# Altium schematic symbol library Connectors.SchLib: 134 symbols (part 1 of 2)
Pins are listed as number, name and electrical type; pins without a type are passive.

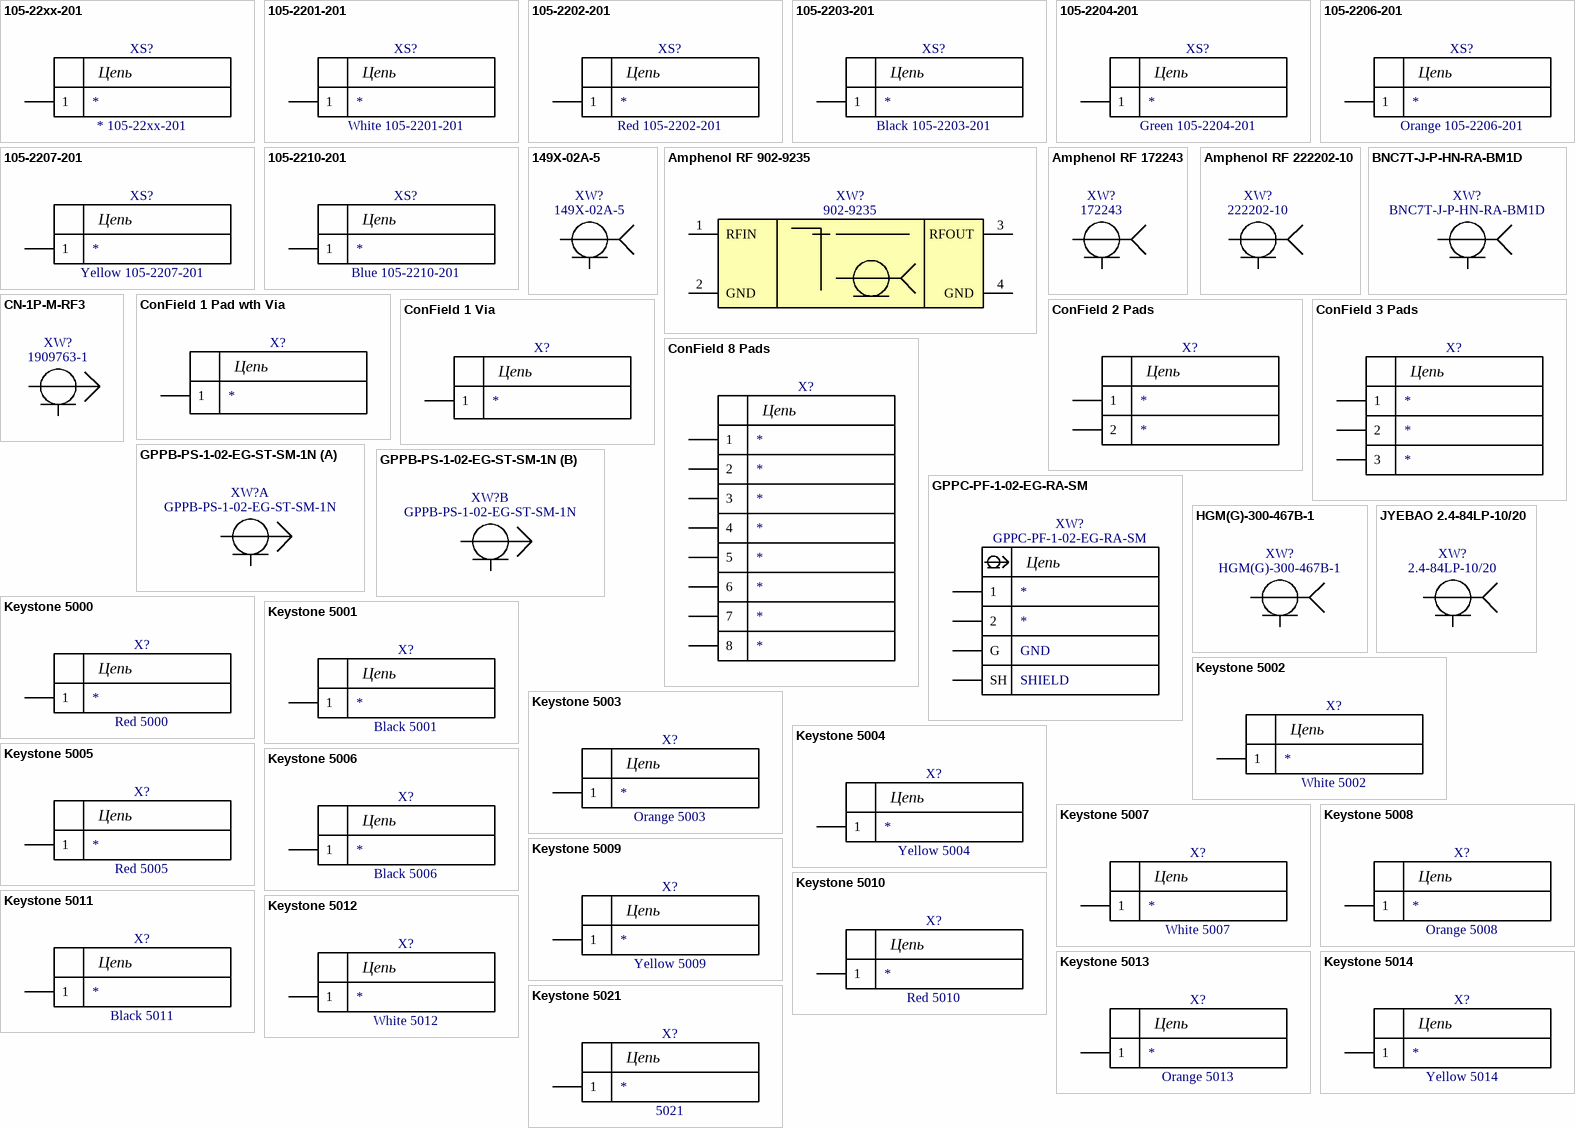
[diagram p0: symbols 105-22xx-201 to Keystone 5021]

## 105-22xx-201
designator XS?, comment * 105-22xx-201
Vertical Test Jack Insulated Formed Contact / Pin Ø 2mm; Manufacturer: Cinch; PartNumber: 105-22xx-201; BodyColor: *; ComponentLink1Description: DataSheet; ComponentLink1URL: https://cinch.com/resources/productinformations/cinchconnectivitysolutions/johnson/pi-ccs-john-105-2210-201.pdf; ComponentLink2Description: DataSheet 2; ComponentLink2URL: https://cinch.com/resources/drawings/cinchconnectivitysolutions/johnson/dr-ccs-john-105-2210-201.pdf; Net1: *
footprint 105-2201-201 (Vertical Test Jack Insulated Formed Contact, For Standard Tip Plug 2.00Dia, Color - white)
footprint 105-2202-201 (Vertical Test Jack Insulated Formed Contact, For Standard Tip Plug 2.00Dia, Color - red)
footprint 105-2203-201 (Vertical Test Jack Insulated Formed Contact, For Standard Tip Plug 2.00Dia, Color - black)
footprint 105-2204-201 (Vertical Test Jack Insulated Formed Contact, For Standard Tip Plug 2.00Dia, Color - green)
footprint 105-2206-201 (Vertical Test Jack Insulated Formed Contact, For Standard Tip Plug 2.00Dia, Color - orange)
footprint 105-2207-201 (Vertical Test Jack Insulated Formed Contact, For Standard Tip Plug 2.00Dia, Color - yellow)
footprint 105-2208-201 (Vertical Test Jack Insulated Formed Contact, For Standard Tip Plug 2.00Dia, Color - brown)
footprint 105-2210-201 (Vertical Test Jack Insulated Formed Contact, For Standard Tip Plug 2.00Dia, Color - blue)
footprint 105-2212-201 (Vertical Test Jack Insulated Formed Contact, For Standard Tip Plug 2.00Dia, Color - violet)
footprint 105-2213-201 (Vertical Test Jack Insulated Formed Contact, For Standard Tip Plug 2.00Dia, Color - gray)
pins: 1
text: Цепь

## 105-2201-201
designator XS?, comment White 105-2201-201
Vertical Test Jack Insulated Formed Contact / Pin Ø 2mm White; Manufacturer: Cinch; PartNumber: 105-2201-201; BodyColor: White; ComponentLink1Description: Product Page; ComponentLink1URL: https://www.cinch.com/products/rf-microwave/accessories/banana-and-tip-connectors/105-2201-201; Net1: *
footprint 105-2201-201 (Vertical Test Jack Insulated Formed Contact, For Standard Tip Plug 2.00Dia, Color - white)
pins: 1
text: Цепь

## 105-2202-201
designator XS?, comment Red 105-2202-201
Vertical Test Jack Insulated Formed Contact / Pin Ø 2mm Red; Manufacturer: Cinch; PartNumber: 105-2202-201; BodyColor: Red; ComponentLink1Description: Product Page; ComponentLink1URL: https://www.cinch.com/products/rf-microwave/accessories/banana-and-tip-connectors/105-2202-201; Net1: *
footprint 105-2202-201 (Vertical Test Jack Insulated Formed Contact, For Standard Tip Plug 2.00Dia, Color - red)
pins: 1
text: Цепь

## 105-2203-201
designator XS?, comment Black 105-2203-201
Vertical Test Jack Insulated Formed Contact / Pin Ø 2mm Black; Manufacturer: Cinch; PartNumber: 105-2203-201; BodyColor: Black; ComponentLink1Description: Product Page; ComponentLink1URL: https://www.cinch.com/products/rf-microwave/accessories/banana-and-tip-connectors/105-2203-201; Net1: *
footprint 105-2203-201 (Vertical Test Jack Insulated Formed Contact, For Standard Tip Plug 2.00Dia, Color - black)
pins: 1
text: Цепь

## 105-2204-201
designator XS?, comment Green 105-2204-201
Vertical Test Jack Insulated Formed Contact / Pin Ø 2mm Green; Manufacturer: Cinch; PartNumber: 105-2204-201; BodyColor: Green; ComponentLink1Description: Product Page; ComponentLink1URL: https://www.cinch.com/products/rf-microwave/accessories/banana-and-tip-connectors/105-2204-201; Net1: *
footprint 105-2204-201 (Vertical Test Jack Insulated Formed Contact, For Standard Tip Plug 2.00Dia, Color - green)
pins: 1
text: Цепь

## 105-2206-201
designator XS?, comment Orange 105-2206-201
Vertical Test Jack Insulated Formed Contact / Pin Ø 2mm Orange; Manufacturer: Cinch; PartNumber: 105-2206-201; BodyColor: Orange; ComponentLink1Description: DataSheet; ComponentLink1URL: https://www.cinch.com/products/rf-microwave/accessories/banana-and-tip-connectors/105-2206-201; Net1: *
footprint 105-2206-201 (Vertical Test Jack Insulated Formed Contact, For Standard Tip Plug 2.00Dia, Color - orange)
pins: 1
text: Цепь

## 105-2207-201
designator XS?, comment Yellow 105-2207-201
Vertical Test Jack Insulated Formed Contact / Pin Ø 2mm Yellow; Manufacturer: Cinch; PartNumber: 105-2207-201; BodyColor: Yellow; ComponentLink1Description: DataSheet; ComponentLink1URL: https://www.cinch.com/products/rf-microwave/accessories/banana-and-tip-connectors/105-2207-201; Net1: *
footprint 105-2207-201 (Vertical Test Jack Insulated Formed Contact, For Standard Tip Plug 2.00Dia, Color - yellow)
pins: 1
text: Цепь

## 105-2210-201
designator XS?, comment Blue 105-2210-201
Vertical Test Jack Insulated Formed Contact / Pin Ø 2mm Blue; Manufacturer: Cinch; PartNumber: 105-2210-201; BodyColor: Blue; ComponentLink1Description: DataSheet; ComponentLink1URL: https://www.cinch.com/products/rf-microwave/accessories/banana-and-tip-connectors/105-2210-201; Net1: *
footprint 105-2210-201 (Vertical Test Jack Insulated Formed Contact, For Standard Tip Plug 2.00Dia, Color - blue)
pins: 1
text: Цепь

## 149X-02A-5
designator XW?
End Launch 2.40mm 50 GHz Jack (Female) Standard Block (.500); Manufacturer: Southwest Microwave; PartNumber: 149X-02A-5; ComponentLink1Description: Product Page; ComponentLink1URL: https://mpd.southwestmicrowave.com/product-category/end-launch-connectors/
footprint 149X-02A-5 (South-West End Launch Connector - Standard Profile 2.4mm)
pins: 1, 2

## Amphenol RF 902-9235
designator XW?, comment 902-9235
RF Switch Straight PCB Jack Surface Mount 50 Ohm; Manufacturer: Amphenol RF; PartNumber: 902-9235; ComponentLink1Description: Product Page; ComponentLink1URL: https://www.amphenolrf.com/902-9235.html; ComponentLink2Description: DataSheet; ComponentLink2URL: https://www.amphenolrf.com/library/download/link/link_id/598204/parent/902-9235/
footprint Amphenol RF 902-9235 (RF Switch Straight PCB Jack Surface Mount 50 Ohm)
pins: 1 RFIN, 2 GND, 3 RFOUT, 4 GND

## Amphenol RF 172243
designator XW?, comment 172243
N-Type PCB Through Hole Straight Jack Bulkhead 50 Ohm; Manufacturer: Amphenol RF; PartNumber: 172243; ComponentLink1Description: Product Page; ComponentLink1URL: https://www.amphenolrf.com/172243.html; ComponentLink2Description: DataSheet; ComponentLink2URL: https://www.amphenolrf.com/library/download/link/link_id/591480/parent/172243/
footprint Amphenol RF 172243 (N-Type PCB Through Hole Straight Jack Bulkhead 50 Ohm)
pins: 1, 2

## Amphenol RF 222202-10
designator XW?, comment 222202-10
F-Type Straight PCB Jack End Launch Bulkhead Rear Mount 75 Ohm; Manufacturer: Amphenol RF; PartNumber: 222202-10; ComponentLink1Description: Product Page; ComponentLink1URL: https://www.amphenolrf.com/222202-10.html; ComponentLink2Description: DataSheet; ComponentLink2URL: https://www.amphenolrf.com/library/download/link/link_id/595137/parent/222202-10/
footprint Amphenol RF 222202-10 (F-Type Straight PCB Jack End Launch Bulkhead Rear Mount 75 Ohm)
pins: 1, 2

## BNC7T-J-P-HN-RA-BM1D
designator XW?
75 Ohm BNC Low Profile, Mixed Technology Die Cast Bulkhead Jack; Manufacturer: Samtec; PartNumber: BNC7T-J-P-HN-RA-BM1D; ComponentLink1Description: Product Page; ComponentLink1URL: https://www.samtec.com/products/bnc7t-j-p-hn-ra-bm1d#prints; ComponentLink2Description: DataSheet; ComponentLink2URL: https://suddendocs.samtec.com/prints/bnc7t-j-p-xx-ra-bmxd-mkt.pdf
footprint BNC7T-J-P-HN-RA-BM1D (Samtek 75 Ohm BNC Low Profile, Mixed Technology Die Cast Bulkhead Jack)
pins: 1, 2

## CN-1P-M-RF3
designator XW?, comment 1909763-1
Ultra Miniature Coaxial Connector Jack, 60 V, 50 Ohm, -40 to 90 degC, RoHS, Tape and Reel; Manufacturer: TE Connectivity; Gender: Female; PCB Mounting Orientation: Vertical; Body Material: LiquidCrystalPolymer; Case\/Package: SMD/SMT; Impedance: 50Ohm; Max Frequency: 6GHz; Body Plating: Gold; Dielectric Material: Polymer; Orientation: Straight; Mount: SurfaceMount; Length: 3mm; Packaging: TapeandReel; Connector Type: Jack; Lead Free: LeadFree; Package Quantity: 1; Termination: SMD/SMT; Contact Material: CopperAlloy; Fastening Type: Pull; RoHSCompliant: true; Max Operating Temperature: 90degC; Datasheet URL: http://www.te.com/commerce/DocumentDelivery/DDEController?Action=srchrtrv&DocNm=1909763&DocType=Customer+Drawing&DocLang=English; Contact Plating: Gold; Mounting Technology: SurfaceMount; Package Reference: TECO-1909763-1; Insulation Material: Thermoplastic; Min Operating Temperature: -40degC; Manufacturer URL: http://www.te.com/; ELV: Compliant; Datasheet Version: Rev. B2, 11/2015; Radiation Hardening: No; Package Description: 3-Pin Surface Mount Device, Body 2.6 x 2.6 mm; Housing Colour: Beige; Supplier 1: Digi-Key; Supplier Part Number 1: A118077CT-ND; PartNumber: 1909763-1; ComponentLink1Description: Product Page; ComponentLink1URL: https://www.te.com/usa-en/product-1909763-1.html; ComponentLink2Description: DataSheet; ComponentLink2URL: https://www.te.com/usa-en/product-1909763-1.datasheet.pdf
footprint TECO-1909763-1_V (SMD, 3-Leads, Body 2.6x2.6mm, Height 1.25mm)
pins: 1, 2

## ConField 1 Pad wth Via
designator X?  (no BOM)
Contact Field Pad with Via; Net1: *
footprint ConField L1200W500 WTH Via (Contact Field Pad with Via 12mm x 5 mm x via 3 mm)
pins: 1
text: Цепь

## ConField 1 Via
designator X?  (no BOM)
Contact Via Pad Diameter 1.6 mm Via 1 mm with Netname; Net1: *
footprint ConViaPad D1600H100 - NetName (Contact Via Pad Diameter 1.6 mm Via 1 mm with Netname)
pins: 1
text: Цепь

## ConField 2 Pads
designator X?  (no BOM)
Contact Field 2 Pads; Net2: *; Net1: *
footprint ConField 2 Pads L1000W300G200 (Contact Field 2 Pads 10mm x 3 mm gap 2 mm)
pins: 1, 2
text: Цепь

## ConField 3 Pads
designator X?  (no BOM)
Contact Field 3 Pads; Net3: *; Net2: *; Net1: *
footprint ConField 3 Pads L1000W300G200 (Contact Field 3 Pads 10mm x 3 mm gap 2 mm)
pins: 1, 2, 3
text: Цепь

## ConField 8 Pads
designator X?  (no BOM)
Contact Field 8 Pads; Net8: *; Net7: *; Net6: *; Net5: *; Net4: *; Net3: *; Net2: *; Net1: *
footprint ConField 8 Pads L1000W300G200 (Contact Field 8 Pads 10mm x 3 mm gap 2 mm)
pins: 1, 2, 3, 4, 5, 6, 7, 8
text: Цепь

## GPPB-PS-1-02-EG-ST-SM-1N
designator XW?
MPM Connector Plug, Male Pin Surface Mount, Through Hole Solder; Manufacturer: Samtec; PartNumber: GPPB-PS-1-02-EG-ST-SM-1N; ComponentLink1Description: Product Page; ComponentLink1URL: https://www.samtec.com/products/gppb
footprint SAMTEC GPPB-PS-1-02-EG-ST-SM-1N (SMPM Connector Plug, Male Pin Surface Mount, Through Hole Solder)
part A pins: 1, G1
part B pins: 2, G2

## GPPC-PF-1-02-EG-RA-SM
designator XW?  NetSH: SHIELD  NetG: GND
Magnum RF® Ganged, Multi-Port SMPM Block, 2 pos, SMT; Manufacturer: Samtec; PartNumber: GPPC-PF-1-02-EG-RA-SM; ComponentLink1Description: Product Page; ComponentLink1URL: https://www.samtec.com/products/gppc-pf-1-02-eg-ra-sm; Net2: *; Net1: *
footprint SAMTEC GPPC-PF-1-02-EG-RA-SM (Magnum RF® Ganged, Multi-Port SMPM Block, 2 pos, SMT)
pins: 1, 2, G, SH
text: Цепь

## HGM(G)-300-467B-1
designator XW?
Hirose edge SMA 2.92 Press; PartNumber: HGM(G)-300-467B-1; Manufacturer: Hirose; ComponentLink1Description: Product Page; ComponentLink1URL: https://www.hirose.com/en/product/p/CL0323-0937-0-00; ComponentLink2Description: DataSheet; ComponentLink2URL: https://www.hirose.com/en/product/document?clcode=CL0323-0937-0-00&productname=HRM(G)-300-467B-1&series=HRM(G)&documenttype=2DDrawing&lang=en&documentid=0000951626
footprint HGM(G)-300-467B-1 (Hirose edge SMA 2.92 Press)
pins: 1, 2

## JYEBAO 2.4-84LP-10/20
designator XW?, comment 2.4-84LP-10/20
2.4mm Jack End Launch, 0.25 pin; Manufacturer: JYEBAO; PartNumber: 2.4-84LP-10/20; ComponentLink1Description: Product Page; ComponentLink1URL: https://www.jyebao.com.tw/product/detail/id/27260.html; ComponentLink2Description: DataSheet; ComponentLink2URL: https://www.jyebao.com.tw/upload/2.4-84LP-10-20.pdf
footprint JYEBAO 2.4-84LP-10/20 (2.4mm Jack End Launch, 0.25 pin)
pins: 1, 2

## Keystone 5000
designator X?, comment Red 5000
Thru Hole Mount Test Point, Miniature, .010 (.25) × .020 (.51) Phosphor Bronze, Silver Plate, Nylon 46, UL Rated 94V-0, .040 (1.0) Diameter, Red; PartNumber: 5000; Manufacturer: Keystone Electronics; BodyColor: Red; ComponentLink1Description: Product Page; ComponentLink1URL: https://www.keyelco.com/product.cfm/product_id/1309; ComponentLink2Description: DataSheet; ComponentLink2URL: https://www.keyelco.com/product-pdf.cfm?p=1309; Net1: *
footprint KEYSTONE 5000 (Thru Hole Mount Test Point, Miniature, .010 (.25) ? .020 (.51) Phosphor Bronze, Silver Plate, Nylon 46, UL Rated 94V-0, .040 (1.0) Diameter, Red)
pins: 1
text: Цепь

## Keystone 5001
designator X?, comment Black 5001
Thru Hole Mount Test Point, Miniature, .010 (.25) × .020 (.51) Phosphor Bronze, Silver Plate, Nylon 46, UL Rated 94V-0, .040 (1.0) Diameter, Black; PartNumber: 5001; Manufacturer: Keystone Electronics; BodyColor: Black; ComponentLink1Description: Product Page; ComponentLink1URL: https://www.keyelco.com/product.cfm/Miniature-Style/5001/p/518/id/521/c_id/747/product_id/1310; ComponentLink2Description: DataSheet; ComponentLink2URL: https://www.keyelco.com/product-pdf.cfm?p=1310; Net1: *
footprint KEYSTONE 5001 (Thru Hole Mount Test Point, Miniature, .010 (.25) ? .020 (.51) Phosphor Bronze, Silver Plate, Nylon 46, UL Rated 94V-0, .040 (1.0) Diameter, Black)
pins: 1
text: Цепь

## Keystone 5002
designator X?, comment White 5002
Thru Hole Mount Test Point, Miniature, .010 (.25) × .020 (.51) Phosphor Bronze, Silver Plate, Nylon 46, UL Rated 94V-0, .040 (1.0) Diameter, White; PartNumber: 5002; Manufacturer: Keystone Electronics; BodyColor: White; ComponentLink1Description: Product Page; ComponentLink1URL: https://www.keyelco.com/product.cfm/Miniature-Style/5002/p/518/id/521/c_id/747/product_id/1311; ComponentLink2Description: DataSheet; ComponentLink2URL: https://www.keyelco.com/product-pdf.cfm?p=1311; Net1: *
footprint KEYSTONE 5002 (Thru Hole Mount Test Point, Miniature, .010 (.25) ? .020 (.51) Phosphor Bronze, Silver Plate, Nylon 46, UL Rated 94V-0, .040 (1.0) Diameter, White)
pins: 1
text: Цепь

## Keystone 5003
designator X?, comment Orange 5003
Thru Hole Mount Test Point, Miniature, .010 (.25) × .020 (.51) Phosphor Bronze, Silver Plate, Nylon 46, UL Rated 94V-0, .040 (1.0) Diameter, Orange; PartNumber: 5003; Manufacturer: Keystone Electronics; BodyColor: Orange; ComponentLink1Description: Product Page; ComponentLink1URL: https://www.keyelco.com/product.cfm/Miniature-Style/5003/p/518/id/521/c_id/747/product_id/1312; ComponentLink2Description: DataSheet; ComponentLink2URL: https://www.keyelco.com/product-pdf.cfm?p=1312; Net1: *
footprint KEYSTONE 5003 (Thru Hole Mount Test Point, Miniature, .010 (.25) ? .020 (.51) Phosphor Bronze, Silver Plate, Nylon 46, UL Rated 94V-0, .040 (1.0) Diameter, Orange)
pins: 1
text: Цепь

## Keystone 5004
designator X?, comment Yellow 5004
Thru Hole Mount Test Point, Miniature, .010 (.25) × .020 (.51) Phosphor Bronze, Silver Plate, Nylon 46, UL Rated 94V-0, .040 (1.0) Diameter, Yellow; PartNumber: 5004; Manufacturer: Keystone Electronics; BodyColor: Yellow; ComponentLink1Description: Product Page; ComponentLink1URL: https://www.keyelco.com/product.cfm/Miniature-Style/5004/p/518/id/521/c_id/747/product_id/1313; ComponentLink2Description: DataSheet; ComponentLink2URL: https://www.keyelco.com/product-pdf.cfm?p=1313; Net1: *
footprint KEYSTONE 5004 (Thru Hole Mount Test Point, Miniature, .010 (.25) ? .020 (.51) Phosphor Bronze, Silver Plate, Nylon 46, UL Rated 94V-0, .040 (1.0) Diameter, Yellow)
pins: 1
text: Цепь

## Keystone 5005
designator X?, comment Red 5005
Thru Hole Mount Test Point, Compact, .015 (.38) ? .032 (.81) Phosphor Bronze, Silver Plate, Nylon 46, UL Rated 94V-0, .063 (1.6) Diameter, Red; PartNumber: 5005; Manufacturer: Keystone Electronics; BodyColor: Red; ComponentLink1Description: Product Page; ComponentLink1URL: https://www.keyelco.com/product.cfm/Compact-Style/5005/p/518/id/521/c_id/746/product_id/1314; ComponentLink2Description: DataSheet; ComponentLink2URL: https://www.keyelco.com/product-pdf.cfm?p=1314; Net1: *
footprint KEYSTONE 5005 (Thru Hole Mount Test Point, Compact, .015 (.38) ? .032 (.81) Phosphor Bronze, Silver Plate, Nylon 46, UL Rated 94V-0, .063 (1.6) Diameter, Red)
pins: 1
text: Цепь

## Keystone 5006
designator X?, comment Black 5006
Thru Hole Mount Test Point, Compact, .015 (.38) ? .032 (.81) Phosphor Bronze, Silver Plate, Nylon 46, UL Rated 94V-0, .063 (1.6) Diameter, Black; PartNumber: 5006; Manufacturer: Keystone Electronics; BodyColor: Black; ComponentLink1Description: Product Page; ComponentLink1URL: https://www.keyelco.com/product.cfm/Compact-Style/5006/p/518/id/521/c_id/746/product_id/1315; ComponentLink2Description: DataSheet; ComponentLink2URL: https://www.keyelco.com/product-pdf.cfm?p=1315; Net1: *
footprint KEYSTONE 5006 (Thru Hole Mount Test Point, Compact, .015 (.38) ? .032 (.81) Phosphor Bronze, Silver Plate, Nylon 46, UL Rated 94V-0, .063 (1.6) Diameter, Black)
pins: 1
text: Цепь

## Keystone 5007
designator X?, comment White 5007
Thru Hole Mount Test Point, Compact, .015 (.38) ? .032 (.81) Phosphor Bronze, Silver Plate, Nylon 46, UL Rated 94V-0, .063 (1.6) Diameter, White; PartNumber: 5007; Manufacturer: Keystone Electronics; BodyColor: White; ComponentLink1Description: Product Page; ComponentLink1URL: https://www.keyelco.com/product.cfm/Compact-Style/5006/p/518/id/521/c_id/746/product_id/1316; ComponentLink2Description: DataSheet; ComponentLink2URL: https://www.keyelco.com/product-pdf.cfm?p=1316; Net1: *
footprint KEYSTONE 5007 (Thru Hole Mount Test Point, Compact, .015 (.38) ? .032 (.81) Phosphor Bronze, Silver Plate, Nylon 46, UL Rated 94V-0, .063 (1.6) Diameter, White)
pins: 1
text: Цепь

## Keystone 5008
designator X?, comment Orange 5008
Thru Hole Mount Test Point, Compact, .015 (.38) ? .032 (.81) Phosphor Bronze, Silver Plate, Nylon 46, UL Rated 94V-0, .063 (1.6) Diameter, Orange; PartNumber: 5008; Manufacturer: Keystone Electronics; BodyColor: Orange; ComponentLink1Description: Product Page; ComponentLink1URL: https://www.keyelco.com/product.cfm/Compact-Style/5006/p/518/id/521/c_id/746/product_id/1317; ComponentLink2Description: DataSheet; ComponentLink2URL: https://www.keyelco.com/product-pdf.cfm?p=1317; Net1: *
footprint KEYSTONE 5008 (Thru Hole Mount Test Point, Compact, .015 (.38) ? .032 (.81) Phosphor Bronze, Silver Plate, Nylon 46, UL Rated 94V-0, .063 (1.6) Diameter, Orange)
pins: 1
text: Цепь

## Keystone 5009
designator X?, comment Yellow 5009
Thru Hole Mount Test Point, Compact, .015 (.38) ? .032 (.81) Phosphor Bronze, Silver Plate, Nylon 46, UL Rated 94V-0, .063 (1.6) Diameter, Yellow; PartNumber: 5009; Manufacturer: Keystone Electronics; BodyColor: Yellow; ComponentLink1Description: Product Page; ComponentLink1URL: https://www.keyelco.com/product.cfm/Compact-Style/5006/p/518/id/521/c_id/746/product_id/1318; ComponentLink2Description: DataSheet; ComponentLink2URL: https://www.keyelco.com/product-pdf.cfm?p=1318; Net1: *
footprint KEYSTONE 5009 (Thru Hole Mount Test Point, Compact, .015 (.38) ? .032 (.81) Phosphor Bronze, Silver Plate, Nylon 46, UL Rated 94V-0, .063 (1.6) Diameter, Yellow)
pins: 1
text: Цепь

## Keystone 5010
designator X?, comment Red 5010
Thru Hole Mount Test Point, Multipurpose, .015 (.38) ? .032 (.81) Phosphor Bronze, Silver Plate, Nylon 46, UL Rated 94V-0, .063 (1.6) Diameter, Red; PartNumber: 5010; Manufacturer: Keystone Electronics; BodyColor: Red; ComponentLink1Description: Product Page; ComponentLink1URL: https://www.keyelco.com/product.cfm/product_id/1319; ComponentLink2Description: DataSheet; ComponentLink2URL: https://www.keyelco.com/product-pdf.cfm?p=1319; Net1: *
footprint KEYSTONE 5010 (Thru Hole Mount Test Point, Multipurpose, .015 (.38) ? .032 (.81) Phosphor Bronze, Silver Plate, Nylon 46, UL Rated 94V-0, .063 (1.6) Diameter, Red)
pins: 1
text: Цепь

## Keystone 5011
designator X?, comment Black 5011
Thru Hole Mount Test Point, Multipurpose, .015 (.38) ? .032 (.81) Phosphor Bronze, Silver Plate, Nylon 46, UL Rated 94V-0, .063 (1.6) Diameter, Black; PartNumber: 5011; Manufacturer: Keystone Electronics; BodyColor: Black; ComponentLink1Description: Product Page; ComponentLink1URL: https://www.keyelco.com/product.cfm/product_id/1320; ComponentLink2Description: DataSheet; ComponentLink2URL: https://www.keyelco.com/product-pdf.cfm?p=1320; Net1: *
footprint KEYSTONE 5011 (Thru Hole Mount Test Point, Multipurpose, .015 (.38) ? .032 (.81) Phosphor Bronze, Silver Plate, Nylon 46, UL Rated 94V-0, .063 (1.6) Diameter, Black)
pins: 1
text: Цепь

## Keystone 5012
designator X?, comment White 5012
Thru Hole Mount Test Point, Multipurpose, .015 (.38) ? .032 (.81) Phosphor Bronze, Silver Plate, Nylon 46, UL Rated 94V-0, .063 (1.6) Diameter, White; PartNumber: 5012; Manufacturer: Keystone Electronics; BodyColor: White; ComponentLink1Description: Product Page; ComponentLink1URL: https://www.keyelco.com/product.cfm/product_id/1321; ComponentLink2Description: DataSheet; ComponentLink2URL: https://www.keyelco.com/product-pdf.cfm?p=1321; Net1: *
footprint KEYSTONE 5012 (Thru Hole Mount Test Point, Multipurpose, .015 (.38) ? .032 (.81) Phosphor Bronze, Silver Plate, Nylon 46, UL Rated 94V-0, .063 (1.6) Diameter, White)
pins: 1
text: Цепь

## Keystone 5013
designator X?, comment Orange 5013
Thru Hole Mount Test Point, Multipurpose, .015 (.38) ? .032 (.81) Phosphor Bronze, Silver Plate, Nylon 46, UL Rated 94V-0, .063 (1.6) Diameter, Orange; PartNumber: 5013; Manufacturer: Keystone Electronics; BodyColor: Orange; ComponentLink1Description: Product Page; ComponentLink1URL: https://www.keyelco.com/product.cfm/product_id/1322; ComponentLink2Description: DataSheet; ComponentLink2URL: https://www.keyelco.com/product-pdf.cfm?p=1322; Net1: *
footprint KEYSTONE 5013 (Thru Hole Mount Test Point, Multipurpose, .015 (.38) ? .032 (.81) Phosphor Bronze, Silver Plate, Nylon 46, UL Rated 94V-0, .063 (1.6) Diameter, Orange)
pins: 1
text: Цепь

## Keystone 5014
designator X?, comment Yellow 5014
Thru Hole Mount Test Point, Multipurpose, .015 (.38) ? .032 (.81) Phosphor Bronze, Silver Plate, Nylon 46, UL Rated 94V-0, .063 (1.6) Diameter, Yellow; PartNumber: 5014; Manufacturer: Keystone Electronics; BodyColor: Yellow; ComponentLink1Description: Product Page; ComponentLink1URL: https://www.keyelco.com/product.cfm/product_id/1323; ComponentLink2Description: DataSheet; ComponentLink2URL: https://www.keyelco.com/product-pdf.cfm?p=1323; Net1: *
footprint KEYSTONE 5014 (Thru Hole Mount Test Point, Multipurpose, .015 (.38) ? .032 (.81) Phosphor Bronze, Silver Plate, Nylon 46, UL Rated 94V-0, .063 (1.6) Diameter, Yellow)
pins: 1
text: Цепь

## Keystone 5021
designator X?, comment 5021
Thru Hole Mount Test Point, Ultra Low Profile, Phosphor Bronze Silver plate; Manufacturer: Keystone Electronics; PartNumber: 5021; ComponentLink1Description: Product Page; ComponentLink1URL: https://www.keyelco.com/product.cfm/product_id/1325; ComponentLink2Description: DataSheet; ComponentLink2URL: https://www.keyelco.com/product-pdf.cfm?p=1325; Net1: *
footprint KEYSTONE 5021 (Thru Hole Mount Test Point, Ultra Low Profile, Phosphor Bronze Silver plate)
pins: 1
text: Цепь

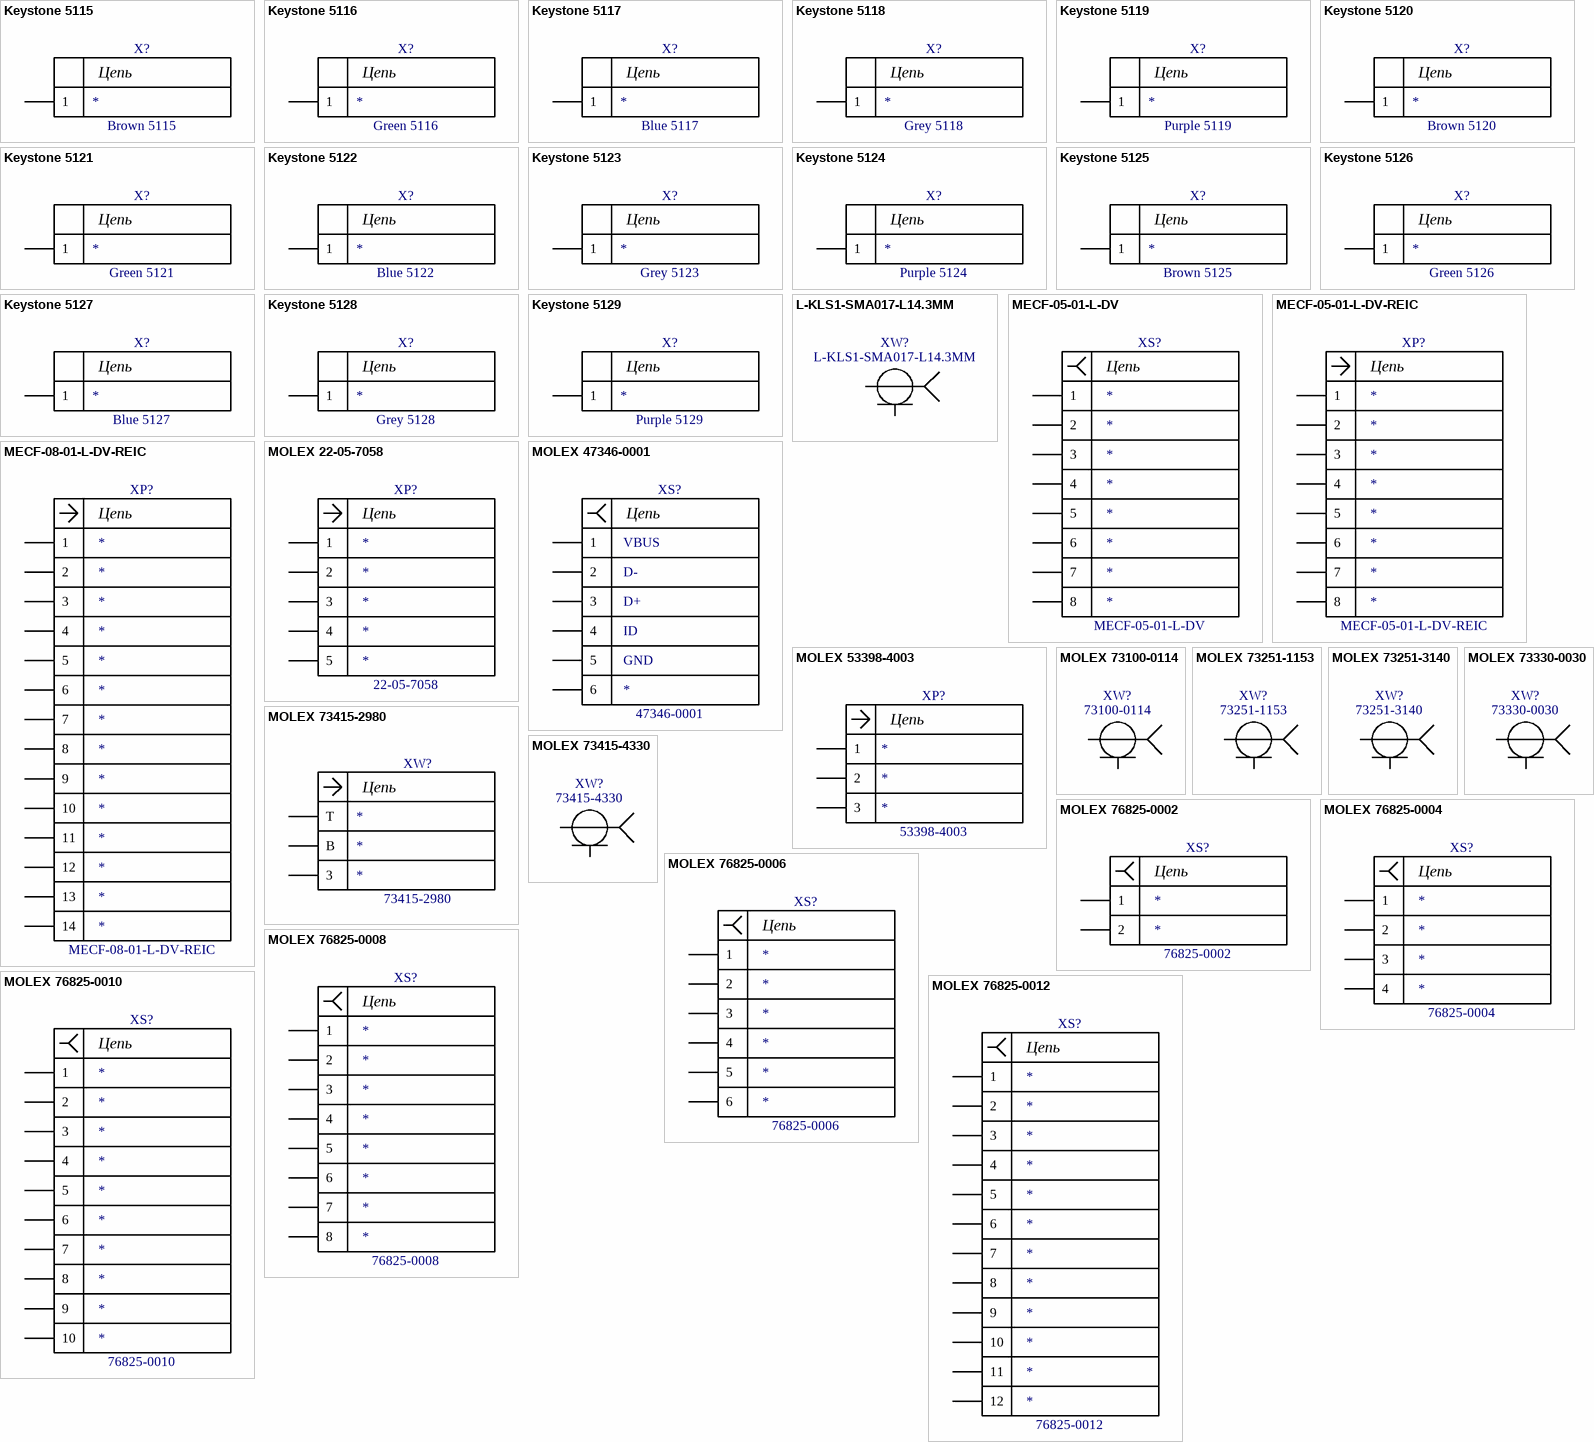
[diagram p1: symbols Keystone 5115 to MOLEX 76825-0012]

## Keystone 5115
designator X?, comment Brown 5115
Thru Hole Mount Test Point, Miniature, .010 (.25) × .020 (.51) Phosphor Bronze, Silver Plate, Nylon 46, UL Rated 94V-0, .040 (1.0) Diameter, Brown; PartNumber: 5115; Manufacturer: Keystone Electronics; BodyColor: Brown; ComponentLink1Description: Product Page; ComponentLink1URL: https://www.keyelco.com/product.cfm/Miniature-Style/5115/p/518/id/521/c_id/747/product_id/1338; ComponentLink2Description: DataSheet; ComponentLink2URL: https://www.keyelco.com/product-pdf.cfm?p=1338; Net1: *
footprint KEYSTONE 5115 (Thru Hole Mount Test Point, Miniature, .010 (.25) ? .020 (.51) Phosphor Bronze, Silver Plate, Nylon 46, UL Rated 94V-0, .040 (1.0) Diameter, Brown)
pins: 1
text: Цепь

## Keystone 5116
designator X?, comment Green 5116
Thru Hole Mount Test Point, Miniature, .010 (.25) × .020 (.51) Phosphor Bronze, Silver Plate, Nylon 46, UL Rated 94V-0, .040 (1.0) Diameter, Green; PartNumber: 5116; Manufacturer: Keystone Electronics; BodyColor: Green; ComponentLink1Description: Product Page; ComponentLink1URL: https://www.keyelco.com/product.cfm/Miniature-Style/5116/p/518/id/521/c_id/747/product_id/1339; ComponentLink2Description: DataSheet; ComponentLink2URL: https://www.keyelco.com/product-pdf.cfm?p=1339; Net1: *
footprint KEYSTONE 5116 (Thru Hole Mount Test Point, Miniature, .010 (.25) ? .020 (.51) Phosphor Bronze, Silver Plate, Nylon 46, UL Rated 94V-0, .040 (1.0) Diameter, Green)
pins: 1
text: Цепь

## Keystone 5117
designator X?, comment Blue 5117
Thru Hole Mount Test Point, Miniature, .010 (.25) × .020 (.51) Phosphor Bronze, Silver Plate, Nylon 46, UL Rated 94V-0, .040 (1.0) Diameter, Blue; PartNumber: 5117; Manufacturer: Keystone Electronics; BodyColor: Blue; ComponentLink1Description: Product Page; ComponentLink1URL: https://www.keyelco.com/product.cfm/Miniature-Style/5117/p/518/id/521/c_id/747/product_id/1340; ComponentLink2Description: DataSheet; ComponentLink2URL: https://www.keyelco.com/product-pdf.cfm?p=1340; Net1: *
footprint KEYSTONE 5117 (Thru Hole Mount Test Point, Miniature, .010 (.25) ? .020 (.51) Phosphor Bronze, Silver Plate, Nylon 46, UL Rated 94V-0, .040 (1.0) Diameter, Blue)
pins: 1
text: Цепь

## Keystone 5118
designator X?, comment Grey 5118
Thru Hole Mount Test Point, Miniature, .010 (.25) × .020 (.51) Phosphor Bronze, Silver Plate, Nylon 46, UL Rated 94V-0, .040 (1.0) Diameter, Grey; PartNumber: 5118; Manufacturer: Keystone Electronics; BodyColor: Grey; ComponentLink1Description: Product Page; ComponentLink1URL: https://www.keyelco.com/product.cfm/Miniature-Style/5118/p/518/id/521/c_id/747/product_id/1341; ComponentLink2Description: DataSheet; ComponentLink2URL: https://www.keyelco.com/product-pdf.cfm?p=1341; Net1: *
footprint KEYSTONE 5118 (Thru Hole Mount Test Point, Miniature, .010 (.25) ? .020 (.51) Phosphor Bronze, Silver Plate, Nylon 46, UL Rated 94V-0, .040 (1.0) Diameter, Grey)
pins: 1
text: Цепь

## Keystone 5119
designator X?, comment Purple 5119
Thru Hole Mount Test Point, Miniature, .010 (.25) × .020 (.51) Phosphor Bronze, Silver Plate, Nylon 46, UL Rated 94V-0, .040 (1.0) Diameter, Purple; PartNumber: 5119; Manufacturer: Keystone Electronics; BodyColor: Purple; ComponentLink1Description: Product Page; ComponentLink1URL: https://www.keyelco.com/product.cfm/Miniature-Style/5119/p/518/id/521/c_id/747/product_id/1342; ComponentLink2Description: DataSheet; ComponentLink2URL: https://www.keyelco.com/product-pdf.cfm?p=1342; Net1: *
footprint KEYSTONE 5119 (Thru Hole Mount Test Point, Miniature, .010 (.25) ? .020 (.51) Phosphor Bronze, Silver Plate, Nylon 46, UL Rated 94V-0, .040 (1.0) Diameter, Purple)
pins: 1
text: Цепь

## Keystone 5120
designator X?, comment Brown 5120
Thru Hole Mount Test Point, Compact, .015 (.38) ? .032 (.81) Phosphor Bronze, Silver Plate, Nylon 46, UL Rated 94V-0, .063 (1.6) Diameter, Brown; PartNumber: 5120; Manufacturer: Keystone Electronics; BodyColor: Brown; ComponentLink1Description: Product Page; ComponentLink1URL: https://www.keyelco.com/product.cfm/Compact-Style/5120/p/518/id/521/c_id/746/product_id/1343; ComponentLink2Description: DataSheet; ComponentLink2URL: https://www.keyelco.com/product-pdf.cfm?p=1343; Net1: *
footprint KEYSTONE 5120 (Thru Hole Mount Test Point, Compact, .015 (.38) ? .032 (.81) Phosphor Bronze, Silver Plate, Nylon 46, UL Rated 94V-0, .063 (1.6) Diameter, Brown)
pins: 1
text: Цепь

## Keystone 5121
designator X?, comment Green 5121
Thru Hole Mount Test Point, Compact, .015 (.38) ? .032 (.81) Phosphor Bronze, Silver Plate, Nylon 46, UL Rated 94V-0, .063 (1.6) Diameter, Green; PartNumber: 5121; Manufacturer: Keystone Electronics; BodyColor: Green; ComponentLink1Description: Product Page; ComponentLink1URL: https://www.keyelco.com/product.cfm/Compact-Style/5120/p/518/id/521/c_id/746/product_id/1344; ComponentLink2Description: DataSheet; ComponentLink2URL: https://www.keyelco.com/product-pdf.cfm?p=1344; Net1: *
footprint KEYSTONE 5121 (Thru Hole Mount Test Point, Compact, .015 (.38) ? .032 (.81) Phosphor Bronze, Silver Plate, Nylon 46, UL Rated 94V-0, .063 (1.6) Diameter, Green)
pins: 1
text: Цепь

## Keystone 5122
designator X?, comment Blue 5122
Thru Hole Mount Test Point, Compact, .015 (.38) ? .032 (.81) Phosphor Bronze, Silver Plate, Nylon 46, UL Rated 94V-0, .063 (1.6) Diameter, Blue; PartNumber: 5122; Manufacturer: Keystone Electronics; BodyColor: Blue; ComponentLink1Description: Product Page; ComponentLink1URL: https://www.keyelco.com/product.cfm/Compact-Style/5120/p/518/id/521/c_id/746/product_id/1345; ComponentLink2Description: DataSheet; ComponentLink2URL: https://www.keyelco.com/product-pdf.cfm?p=1345; Net1: *
footprint KEYSTONE 5122 (Thru Hole Mount Test Point, Compact, .015 (.38) ? .032 (.81) Phosphor Bronze, Silver Plate, Nylon 46, UL Rated 94V-0, .063 (1.6) Diameter, Blue)
pins: 1
text: Цепь

## Keystone 5123
designator X?, comment Grey 5123
Thru Hole Mount Test Point, Compact, .015 (.38) ? .032 (.81) Phosphor Bronze, Silver Plate, Nylon 46, UL Rated 94V-0, .063 (1.6) Diameter, Grey; PartNumber: 5123; Manufacturer: Keystone Electronics; BodyColor: Grey; ComponentLink1Description: Product Page; ComponentLink1URL: https://www.keyelco.com/product.cfm/Compact-Style/5120/p/518/id/521/c_id/746/product_id/1346; ComponentLink2Description: DataSheet; ComponentLink2URL: https://www.keyelco.com/product-pdf.cfm?p=1346; Net1: *
footprint KEYSTONE 5123 (Thru Hole Mount Test Point, Compact, .015 (.38) ? .032 (.81) Phosphor Bronze, Silver Plate, Nylon 46, UL Rated 94V-0, .063 (1.6) Diameter, Gray)
pins: 1
text: Цепь

## Keystone 5124
designator X?, comment Purple 5124
Thru Hole Mount Test Point, Compact, .015 (.38) ? .032 (.81) Phosphor Bronze, Silver Plate, Nylon 46, UL Rated 94V-0, .063 (1.6) Diameter, Purple; PartNumber: 5124; Manufacturer: Keystone Electronics; BodyColor: Purple; ComponentLink1Description: Product Page; ComponentLink1URL: https://www.keyelco.com/product.cfm/Compact-Style/5120/p/518/id/521/c_id/746/product_id/1347; ComponentLink2Description: DataSheet; ComponentLink2URL: https://www.keyelco.com/product-pdf.cfm?p=1347; Net1: *
footprint KEYSTONE 5124 (Thru Hole Mount Test Point, Compact, .015 (.38) ? .032 (.81) Phosphor Bronze, Silver Plate, Nylon 46, UL Rated 94V-0, .063 (1.6) Diameter, Purple)
pins: 1
text: Цепь

## Keystone 5125
designator X?, comment Brown 5125
Thru Hole Mount Test Point, Multipurpose, .015 (.38) ? .032 (.81) Phosphor Bronze, Silver Plate, Nylon 46, UL Rated 94V-0, .063 (1.6) Diameter, Brown; PartNumber: 5125; Manufacturer: Keystone Electronics; BodyColor: Brown; ComponentLink1Description: Product Page; ComponentLink1URL: https://www.keyelco.com/product.cfm/product_id/1348; ComponentLink2Description: DataSheet; ComponentLink2URL: https://www.keyelco.com/product-pdf.cfm?p=1348; Net1: *
footprint KEYSTONE 5125 (Thru Hole Mount Test Point, Compact, .015 (.38) ? .032 (.81) Phosphor Bronze, Silver Plate, Nylon 46, UL Rated 94V-0, .063 (1.6) Diameter, Brown)
pins: 1
text: Цепь

## Keystone 5126
designator X?, comment Green 5126
Thru Hole Mount Test Point, Multipurpose, .015 (.38) ? .032 (.81) Phosphor Bronze, Silver Plate, Nylon 46, UL Rated 94V-0, .063 (1.6) Diameter, Green; PartNumber: 5126; Manufacturer: Keystone Electronics; BodyColor: Green; ComponentLink1Description: Product Page; ComponentLink1URL: https://www.keyelco.com/product.cfm/product_id/1349; ComponentLink2Description: DataSheet; ComponentLink2URL: https://www.keyelco.com/product-pdf.cfm?p=1349; Net1: *
footprint KEYSTONE 5126 (Thru Hole Mount Test Point, Compact, .015 (.38) ? .032 (.81) Phosphor Bronze, Silver Plate, Nylon 46, UL Rated 94V-0, .063 (1.6) Diameter, Green)
pins: 1
text: Цепь

## Keystone 5127
designator X?, comment Blue 5127
Thru Hole Mount Test Point, Multipurpose, .015 (.38) ? .032 (.81) Phosphor Bronze, Silver Plate, Nylon 46, UL Rated 94V-0, .063 (1.6) Diameter, Blue; PartNumber: 5127; Manufacturer: Keystone Electronics; BodyColor: Blue; ComponentLink1Description: Product Page; ComponentLink1URL: https://www.keyelco.com/product.cfm/product_id/1350; ComponentLink2Description: DataSheet; ComponentLink2URL: https://www.keyelco.com/product-pdf.cfm?p=1350; Net1: *
footprint KEYSTONE 5127 (Thru Hole Mount Test Point, Compact, .015 (.38) ? .032 (.81) Phosphor Bronze, Silver Plate, Nylon 46, UL Rated 94V-0, .063 (1.6) Diameter, Blue)
pins: 1
text: Цепь

## Keystone 5128
designator X?, comment Grey 5128
Thru Hole Mount Test Point, Multipurpose, .015 (.38) ? .032 (.81) Phosphor Bronze, Silver Plate, Nylon 46, UL Rated 94V-0, .063 (1.6) Diameter, Grey; PartNumber: 5128; Manufacturer: Keystone Electronics; BodyColor: Grey; ComponentLink1Description: Product Page; ComponentLink1URL: https://www.keyelco.com/product.cfm/product_id/1351; ComponentLink2Description: DataSheet; ComponentLink2URL: https://www.keyelco.com/product-pdf.cfm?p=1351; Net1: *
footprint KEYSTONE 5128 (Thru Hole Mount Test Point, Compact, .015 (.38) ? .032 (.81) Phosphor Bronze, Silver Plate, Nylon 46, UL Rated 94V-0, .063 (1.6) Diameter, Grey)
pins: 1
text: Цепь

## Keystone 5129
designator X?, comment Purple 5129
Thru Hole Mount Test Point, Multipurpose, .015 (.38) ? .032 (.81) Phosphor Bronze, Silver Plate, Nylon 46, UL Rated 94V-0, .063 (1.6) Diameter, Purple; PartNumber: 5129; Manufacturer: Keystone Electronics; BodyColor: Purple; ComponentLink1Description: Product Page; ComponentLink1URL: https://www.keyelco.com/product.cfm/product_id/1352; ComponentLink2Description: DataSheet; ComponentLink2URL: https://www.keyelco.com/product-pdf.cfm?p=1352; Net1: *
footprint KEYSTONE 5129 (Thru Hole Mount Test Point, Compact, .015 (.38) ? .032 (.81) Phosphor Bronze, Silver Plate, Nylon 46, UL Rated 94V-0, .063 (1.6) Diameter, Purple)
pins: 1
text: Цепь

## L-KLS1-SMA017-L14.3MM
designator XW?
SMA PCB End Launch, Jack, Female, L17.4mm; Manufacturer: KLS; PartNumber: L-KLS1-SMA017-L14.3MM; ComponentLink1Description: Product Page; ComponentLink1URL: https://klsele.com/products/RF-Coaxial-Connectors/SMA-Connectors/Edge-launch-PCB-SMA-connectors/1574.html
footprint L-KLS1-SMA017-L14.3MM (SMA PCB End Launch, Jack, Female, L17.4mm)
pins: 1, 2

## MECF-05-01-L-DV
designator XS?
Samtec MicroEdge 1.57mm Thick 5(4) pos Polatizaied DoubleRow; PartNumber: MECF-05-01-L-DV; Manufacturer: Samtec; ComponentLink1Description: Product Page; ComponentLink1URL: https://www.samtec.com/products/mecf-dv; ComponentLink2Description: DataSheet; ComponentLink2URL: https://suddendocs.samtec.com/prints/mecf-xx-xx-xx-dv-xx-x-xx-mkt.pdf; Net8: *; Net7: *; Net6: *; Net5: *; Net1: *; Net2: *; Net3: *; Net4: *
footprint MECF-05-01-L-DV (Samtec MicroEdge 1.57mm Thick 5(4) pos Polatizaied DoubleRow)
pins: 1, 2, 3, 4, 5, 6, 7, 8
text: Цепь

## MECF-05-01-L-DV-REIC
designator XP?  (no BOM)
Samtec MicroEdge 1.57mm Thick 5(4) pos Polatizaied DoubleRow Edge Connector; PartNumber: MECF-05-01-L-DV-REIC; ComponentLink1Description: Product Page; ComponentLink1URL: https://www.samtec.com/products/mecf-dv; ComponentLink2Description: DataSheet; ComponentLink2URL: https://suddendocs.samtec.com/prints/mecf-xx-xx-xx-dv-xx-x-xx-mkt.pdf; Net8: *; Net7: *; Net6: *; Net5: *; Net1: *; Net2: *; Net3: *; Net4: *
footprint MECF-05-01-L-DV-REIC (Samtec MicroEdge 1.57mm Thick 5(4) pos Polatizaied DoubleRow Edge Connector)
footprint MECF-05-01-L-DV-REIC-NetNames (Samtec MicroEdge 1.57mm Thick 5(4) pos Polatizaied DoubleRow Edge Connector)
pins: 1, 2, 3, 4, 5, 6, 7, 8
text: Цепь

## MECF-08-01-L-DV-REIC
designator XP?  (no BOM)
Samtec MicroEdge 1.57mm Thick 8(7) pos Polatizaied DoubleRow Edge Connector; PartNumber: MECF-08-01-L-DV-REIC; ComponentLink1Description: Product Page; ComponentLink1URL: https://www.samtec.com/products/mecf-dv; ComponentLink2Description: DataSheet; ComponentLink2URL: https://suddendocs.samtec.com/prints/mecf-xx-xx-xx-dv-xx-x-xx-mkt.pdf; Net14: *; Net13: *; Net12: *; Net11: *; Net10: *; Net9: *; Net8: *; Net7: *; Net6: *; Net5: *; Net1: *; Net2: *; Net3: *; Net4: *
footprint MECF-08-01-L-DV-REIC (Samtec MicroEdge 1.57mm Thick 8(7) pos Polatizaied DoubleRow Edge Connector)
pins: 1, 2, 3, 4, 5, 6, 7, 8, 9, 10, 11, 12, 13, 14
text: Цепь

## MOLEX 22-05-7058
designator XP?, comment 22-05-7058
KK 254 Wire-to-Board Header, Right-Angle, with Friction Lock, 5 Circuits; Manufacturer: Molex; PartNumber: 22-05-7058; ComponentLink1Description: Product Page; ComponentLink1URL: https://www.molex.com/molex/products/part-detail/pcb_headers/0022057058; ComponentLink2Description: DataSheet; ComponentLink2URL: https://www.molex.com/pdm_docs/sd/022057058_sd.pdf; Net5: *; Net1: *; Net2: *; Net3: *; Net4: *
footprint MOLEX 022057058 (KK 254 Wire-to-Board Header, Right-Angle, with Friction Lock, 5 Circuits)
pins: 1, 2, 3, 4, 5
text: Цепь

## MOLEX 47346-0001
designator XS?, comment 47346-0001  Net_GND: GND  Net_ID: ID  Net_D+: D+  Net_D-: D-  Net_VBUS: VBUS
Micro-USB B Receptacle with Flange, Bottom Mount, Surface Mount, Lead-Free; Manufacturer: Molex; PartNumber: 47346-0001; ComponentLink1Description: Product Page; ComponentLink1URL: https://www.molex.com/molex/products/part-detail/io_connectors/0473460001; ComponentLink2Description: DataSheet; ComponentLink2URL: https://www.molex.com/pdm_docs/sd/473460001_sd.pdf; Net_Shield: *
footprint MOLEX 47346-0001 (Molex USB - micro B USB 2.0 Receptacle Connector 5 Position Surface Mount, Right Angle)
pins: 1, 2, 3, 4, 5, SH 6
text: Цепь

## MOLEX 53398-4003
designator XP?, comment 53398-4003
1.25mm Pitch, PicoBlade PCB Header, Single Row, Vertical, Surface Mount, Gold Flash Plating, 3 Circuits, Tape and Reel; Manufacturer: Molex; PartNumber: 53398-4003; ComponentLink1Description: Product Page; ComponentLink1URL: https://www.molex.com/en-us/products/part-detail/533984003; ComponentLink2Description: DataSheet; ComponentLink2URL: https://www.molex.com/content/dam/molex/molex-dot-com/products/automated/en-us/salesdrawingpdf/533/53398/533984003_sd.pdf?inline; Net3: *; Net2: *; Net1: *
footprint MOLEX 53398-4003 (1.25mm Pitch, PicoBlade PCB Header, Single Row, Vertical, Surface Mount, Gold Flash Plating, 3 Circuits, Tape and Reel)
pins: 1, 2, 3
text: Цепь

## MOLEX 73100-0114
designator XW?, comment 73100-0114
50 Ohms, SMA Right-Angle PCB Jack Receptacle, Brass Body, Gold Plated, Tray; Manufacturer: Molex; PartNumber: 73100-0114; ComponentLink1Description: Product Page; ComponentLink1URL: https://www.molex.com/en-us/products/part-detail/731000114; ComponentLink2Description: DataSheet; ComponentLink2URL: https://www.molex.com/content/dam/molex/molex-dot-com/products/automated/en-us/salesdrawingpdf/732/73251/731000114_sd.pdf?inline
footprint MOLEX 73100-0114 (50 Ohms, SMA Right-Angle PCB Jack Receptacle, Brass Body, Gold Plated, Tray)
pins: 1, 2

## MOLEX 73251-1153
designator XW?, comment 73251-1153
MOLEX 73251-1153 (SMA EDGE); PartNumber: 73251-1153; Manufacturer: Molex; ComponentLink1Description: Product Page; ComponentLink1URL: https://www.molex.com/molex/products/part-detail/rf_coax_connectors/0732511153; ComponentLink2Description: DataSheet; ComponentLink2URL: https://www.molex.com/pdm_docs/sd/732511153_sd.pdf
footprint MOLEX 73251-1153 (MOLEX 50 Ohms, SMA Jack Receptacle, Edge Mount, .25µm Gold (Au) Plating)
footprint MOLEX 73251-1153 - 0.45pin (MOLEX 50 Ohms, SMA Jack Receptacle, Edge Mount, .25µm Gold (Au) Plating)
footprint MOLEX 73251-1153 - 1.1pin (MOLEX 50 Ohms, SMA Jack Receptacle, Edge Mount, .25µm Gold (Au) Plating)
pins: 1, 2

## MOLEX 73251-3140
designator XW?, comment 73251-3140
MOLEX 50 Ohms, SMA PCB Jack Receptacle, Through Hole, One Piece Per Bag; PartNumber: 73251-3140; Manufacturer: Molex; ComponentLink1Description: Product Page; ComponentLink1URL: https://www.molex.com/molex/products/part-detail/rf_coax_connectors/0732513140; ComponentLink2Description: DataSheet; ComponentLink2URL: https://www.molex.com/pdm_docs/sd/732513140_sd.pdf
footprint MOLEX 73251-3140 (MOLEX 50 Ohms, SMA PCB Jack Receptacle, Through Hole)
pins: 1, 2

## MOLEX 73330-0030
designator XW?, comment 73330-0030
75 Ohms, F Right-Angle Printed Circuit Board Jack Receptacle; Manufacturer: Molex; PartNumber: 73330-0030; ComponentLink1Description: Product Page; ComponentLink1URL: https://www.molex.com/en-us/products/part-detail/733300030; ComponentLink2Description: DataSheet; ComponentLink2URL: https://www.molex.com/content/dam/molex/molex-dot-com/products/automated/en-us/salesdrawingpdf/733/73330/733300030_sd.pdf?inline
footprint MOLEX 73330-0030 (75 Ohms, F Right-Angle Printed Circuit Board Jack Receptacle)
pins: 1, 2

## MOLEX 73415-2980
designator XW?, comment 73415-2980
50 Ohms, BNC Jack, Dual Stack, Tray; Manufacturer: Molex; PartNumber: 73415-2980; ComponentLink1Description: Product Page; ComponentLink1URL: https://www.molex.com/molex/products/part-detail/rf_coax_connectors/0734152980; ComponentLink2Description: DataSheet; ComponentLink2URL: https://www.molex.com/pdm_docs/sd/734152980_sd.pdf; NetGND: *; NetB: *; NetT: *
footprint MOLEX 73415-2980 (50 Ohms, BNC Jack, Dual Stack, Tray)
pins: 3, B, T
text: Цепь

## MOLEX 73415-4330
designator XW?, comment 73415-4330
75 Ohms, MCX Jack, Right-Angle, Nickel Plated Outer Contact, Tri-M Plated Housing, Tray; Manufacturer: Molex; PartNumber: 73415-4330; ComponentLink1Description: Product Page; ComponentLink1URL: https://www.molex.com/en-us/products/part-detail/734154330; ComponentLink2Description: DataSheet; ComponentLink2URL: https://www.molex.com/content/dam/molex/molex-dot-com/products/automated/en-us/salesdrawingpdf/734/73415/734154330_sd.pdf?inline
footprint MOLEX 73415-4330 (75 Ohms, MCX Jack, Right-Angle, Nickel Plated Outer Contact, Tri-M Plated Housing, Tray)
pins: 1, 2

## MOLEX 76825-0002
designator XS?, comment 76825-0002
Mega-Fit Right-Angle Header, 2 Circuits, Tin (Sn) Plating, UL 94 V-0, Glow-Wire Capable, Tray; Manufacturer: Molex; PartNumber: 76825-0002; ComponentLink1Description: Product Page; ComponentLink1URL: https://www.molex.com/molex/products/part-detail/pcb_headers/0768250002; ComponentLink2Description: DataSheet; ComponentLink2URL: https://www.molex.com/pdm_docs/sd/768250002_sd.pdf; Net1: *; Net2: *
footprint MOLEX 76825-0002 (Mega-Fit Right-Angle Header, 2 Circuits, Tin (Sn) Plating, UL 94 V-0, Glow-Wire Capable, Tray)
pins: 1, 2
text: Цепь

## MOLEX 76825-0004
designator XS?, comment 76825-0004
Mega-Fit Right-Angle Header, 4 Circuits, Tin (Sn) Plating, UL 94 V-0, Glow-Wire Capable, Tray; Manufacturer: Molex; PartNumber: 76825-0004; ComponentLink1Description: Product Page; ComponentLink1URL: https://www.molex.com/molex/products/part-detail/pcb_headers/0768250004; ComponentLink2Description: DataSheet; ComponentLink2URL: https://www.molex.com/pdm_docs/sd/768250004_sd.pdf; Net1: *; Net2: *; Net3: *; Net4: *
footprint MOLEX 76825-0004 (Mega-Fit Right-Angle Header, 4 Circuits, Tin (Sn) Plating, UL 94 V-0, Glow-Wire Capable, Tray)
footprint MOLEX 76825-0004 - NetNames (Mega-Fit Right-Angle Header, 4 Circuits, Tin (Sn) Plating, UL 94 V-0, Glow-Wire Capable, Tray, With Net Names on Overlay)
pins: 1, 2, 3, 4
text: Цепь

## MOLEX 76825-0006
designator XS?, comment 76825-0006
Mega-Fit Right-Angle Header, 6 Circuits, Tin (Sn) Plating, UL 94 V-0, Glow-Wire Capable, Tray; Manufacturer: Molex; PartNumber: 76825-0006; ComponentLink1Description: Product Page; ComponentLink1URL: https://www.molex.com/molex/products/part-detail/pcb_headers/0768250006; ComponentLink2Description: DataSheet; ComponentLink2URL: https://www.molex.com/pdm_docs/sd/768250006_sd.pdf; Net6: *; Net5: *; Net1: *; Net2: *; Net3: *; Net4: *
footprint MOLEX 76825-0006 (Mega-Fit Right-Angle Header, 6 Circuits, Tin (Sn) Plating, UL 94 V-0, Glow-Wire Capable, Tray)
pins: 1, 2, 3, 4, 5, 6
text: Цепь

## MOLEX 76825-0008
designator XS?, comment 76825-0008
Mega-Fit Right-Angle Header, 8 Circuits, Tin (Sn) Plating, UL 94 V-0, Glow-Wire Capable, Tray; Manufacturer: Molex; PartNumber: 76825-0008; ComponentLink1Description: Product Page; ComponentLink1URL: https://www.molex.com/molex/products/part-detail/pcb_headers/0768250008; ComponentLink2Description: DataSheet; ComponentLink2URL: https://www.molex.com/pdm_docs/sd/768250008_sd.pdf; Net8: *; Net7: *; Net6: *; Net5: *; Net1: *; Net2: *; Net3: *; Net4: *
footprint MOLEX 76825-0008 (Mega-Fit Right-Angle Header, 8 Circuits, Tin (Sn) Plating, UL 94 V-0, Glow-Wire Capable, Tray)
pins: 1, 2, 3, 4, 5, 6, 7, 8
text: Цепь

## MOLEX 76825-0010
designator XS?, comment 76825-0010
Mega-Fit Right-Angle Header, 10 Circuits, Tin (Sn) Plating, UL 94 V-0, Glow-Wire Capable, Tray; Manufacturer: Molex; PartNumber: 76825-0010; ComponentLink1Description: Product Page; ComponentLink1URL: https://www.molex.com/molex/products/part-detail/pcb_headers/0768250010; ComponentLink2Description: DataSheet; ComponentLink2URL: https://www.molex.com/pdm_docs/sd/768250010_sd.pdf; Net10: *; Net9: *; Net8: *; Net7: *; Net6: *; Net5: *; Net1: *; Net2: *; Net3: *; Net4: *
footprint MOLEX 76825-0010 (Mega-Fit Right-Angle Header, 10 Circuits, Tin (Sn) Plating, UL 94 V-0, Glow-Wire Capable, Tray)
pins: 1, 2, 3, 4, 5, 6, 7, 8, 9, 10
text: Цепь

## MOLEX 76825-0012
designator XS?, comment 76825-0012
Mega-Fit Right-Angle Header, 12 Circuits, Tin (Sn) Plating, UL 94 V-0, Glow-Wire Capable, Tray; Manufacturer: Molex; PartNumber: 76825-0012; ComponentLink1Description: Product Page; ComponentLink1URL: https://www.molex.com/molex/products/part-detail/pcb_headers/0768250012; ComponentLink2Description: DataSheet; ComponentLink2URL: https://www.molex.com/pdm_docs/sd/768250012_sd.pdf; Net12: *; Net11: *; Net10: *; Net9: *; Net8: *; Net7: *; Net6: *; Net5: *; Net1: *; Net2: *; Net3: *; Net4: *
footprint MOLEX 76825-0012 (Mega-Fit Right-Angle Header, 12 Circuits, Tin (Sn) Plating, UL 94 V-0, Glow-Wire Capable, Tray)
pins: 1, 2, 3, 4, 5, 6, 7, 8, 9, 10, 11, 12
text: Цепь

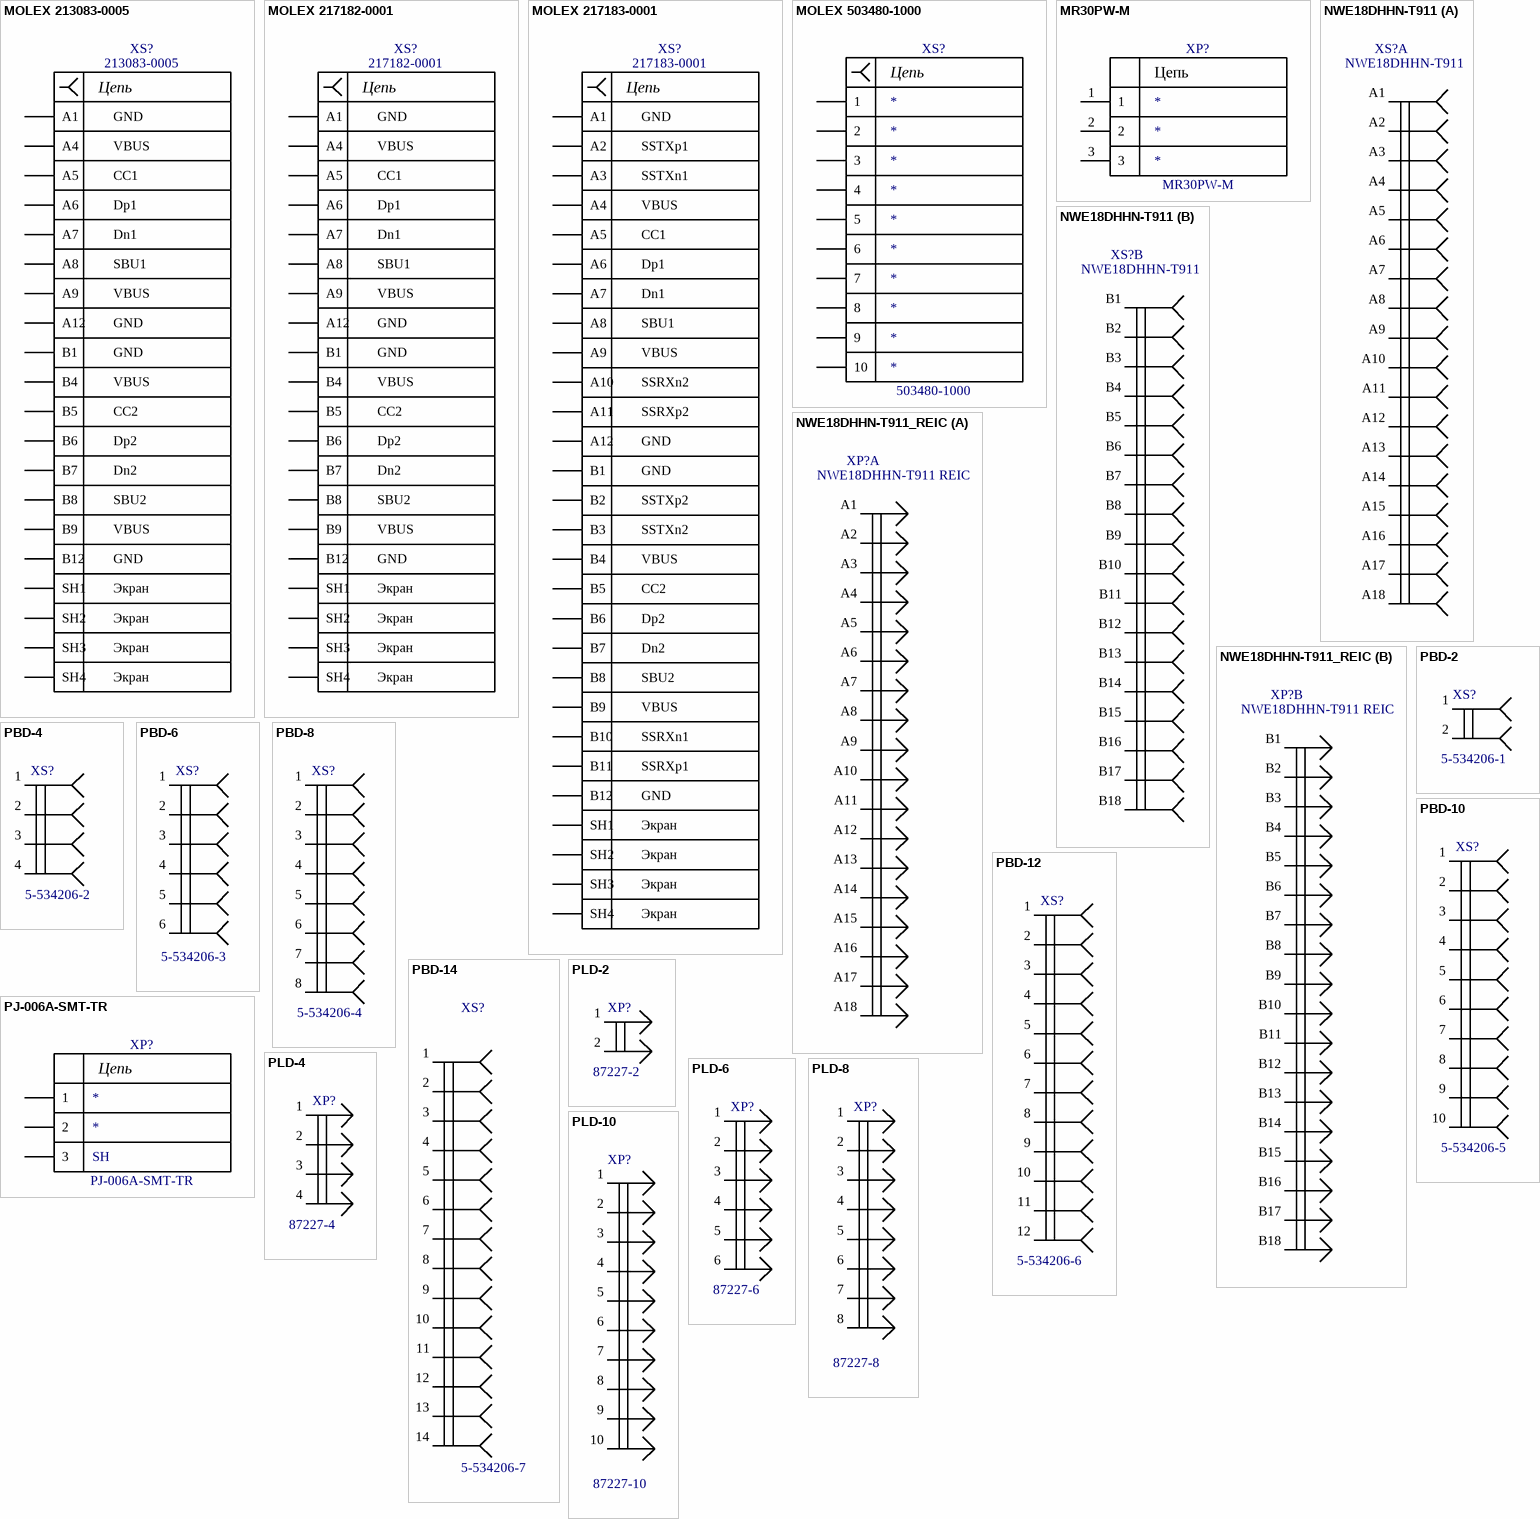
[diagram p2: symbols MOLEX 213083-0005 to PLD-10]

## MOLEX 213083-0005
designator XS?, comment 213083-0005
Universal Serial Bus (USB) Shielded I/O Receptacle, Type C, Right-Angle, Top Mount, Single Row, Surface Mount, Gold (Au) Plating, Waterproof; Manufacturer: Molex; PartNumber: 213083-0005; ComponentLink1Description: Product Page; ComponentLink1URL: https://www.molex.com/en-us/products/part-detail/2130830005; ComponentLink2Description: DataSheet; ComponentLink2URL: https://www.molex.com/content/dam/molex/molex-dot-com/products/automated/en-us/packagingdesigndrawing/213/213083/2130830005-PK0.pdf?inline
footprint MOLEX 213083-0005 (Universal Serial Bus (USB) Shielded I/O Receptacle, Type C, Right-Angle, Top Mount, Single Row, Surface Mount, Gold (Au) Plating, Waterproof)
pins: A1, A4, A5, A6, A7, A8, A9, A12, B1, B4, B5, B6, B7, B8, B9, B12, SH1, SH2, SH3, SH4
text: Цепь; GND; VBUS; CC1; Dp1; Dn1; SBU1; CC2; Dp2; Dn2; SBU2; Экран

## MOLEX 217182-0001
designator XS?, comment 217182-0001
Universal Serial Bus (USB) Shielded I/O Receptacle, Type C, Vertical, Surface Mount, Height 6.40mm, 16 Circuits, Gold (Au) Plating; Manufacturer: Molex; PartNumber: 217182-0001; ComponentLink1Description: Product Page; ComponentLink1URL: https://www.molex.com/en-us/products/part-detail/2171820001; ComponentLink2Description: DataSheet; ComponentLink2URL: https://www.molex.com/content/dam/molex/molex-dot-com/products/automated/en-us/salesdrawingpdf/217/217182/2171820001_sd.pdf?inline
footprint MOLEX 217182-0001 (Universal Serial Bus (USB) Shielded I/O Receptacle, Type C, Vertical, Surface Mount, Height 6.40mm, 16 Circuits, Gold (Au) Plating)
pins: A1, A4, A5, A6, A7, A8, A9, A12, B1, B4, B5, B6, B7, B8, B9, B12, SH1, SH2, SH3, SH4
text: Цепь; GND; VBUS; CC1; Dp1; Dn1; SBU1; CC2; Dp2; Dn2; SBU2; Экран

## MOLEX 217183-0001
designator XS?, comment 217183-0001
Universal Serial Bus (USB) Shielded I/O Receptacle, Type C, Right-Angle, Hybrid, Top Mount, 24 Circuits, Gold (Au) Plating; Manufacturer: Molex; PartNumber: 217183-0001; ComponentLink1Description: Product Page; ComponentLink1URL: https://www.molex.com/en-us/products/part-detail/2171830001; ComponentLink2Description: DataSheet; ComponentLink2URL: https://www.molex.com/content/dam/molex/molex-dot-com/products/automated/en-us/salesdrawingpdf/217/217183/2171830001_sd.pdf?inline
footprint MOLEX 217183-0001 (Universal Serial Bus (USB) Shielded I/O Receptacle, Type C, Right-Angle, Hybrid, Top Mount, 24 Circuits, Gold (Au) Plating)
pins: A1, A2, A3, A4, A5, A6, A7, A8, A9, A10, A11, A12, B1, B2, B3, B4, B5, B6, B7, B8, B9, B10, B11, B12, SH1, SH2, SH3, SH4
text: Цепь; GND; SSTXp1; SSTXn1; VBUS; CC1; Dp1; Dn1; SBU1; SSRXn2; SSRXp2; SSTXp2; SSTXn2; CC2; Dp2; Dn2; SBU2; SSRXn1; SSRXp1; Экран

## MOLEX 503480-1000
designator XS?, comment 503480-1000
Easy-On FFC/FPC Connector, 0.50mm Pitch, FBH1 Series, Right-Angle, Dual Contact, 1.00mm Height, 10 Circuits, Gold over Nickel Plating; Manufacturer: Molex; PartNumber: 503480-1000; ComponentLink1Description: Product Page; ComponentLink1URL: https://www.molex.com/en-us/products/part-detail/5034801000; ComponentLink2Description: DataSheet; ComponentLink2URL: https://www.molex.com/content/dam/molex/molex-dot-com/products/automated/en-us/salesdrawingpdf/503/503480/5034801000_sd.pdf; Net10: *; Net9: *; Net8: *; Net7: *; Net6: *; Net5: *; Net1: *; Net2: *; Net3: *; Net4: *
footprint MOLEX 503480-1000 (Easy-On FFC/FPC Connector, 0.50mm Pitch, FBH1 Series, Right-Angle, Dual Contact, 1.00mm Height, 10 Circuits, Gold over Nickel Plating)
pins: 1, 2, 3, 4, 5, 6, 7, 8, 9, 10
text: Цепь

## MR30PW-M
designator XP?
AMASS MR30PW Right Angle 3-pos Male; PartNumber: MR30PW-M; Manufacturer: AMASS; Net3: *; Net2: *; Net1: *
footprint MR30PW-M (AMASS MR30PW Right Angle 3-pos Male)
pins: 1, 2, 3
text: Цепь

## NWE18DHHN-T911
designator XS?
PCI EXPRESS, 1mm CC, DIP SOLDER; Manufacturer: Sullins; PartNumber: NWE18DHHN-T911
footprint NWE18DHHN-T911 (PCI-E Connemctor)
part A pins: A1, A2, A3, A4, A5, A6, A7, A8, A9, A10, A11, A12, A13, A14, A15, A16, A17, A18
part B pins: B1, B2, B3, B4, B5, B6, B7, B8, B9, B10, B11, B12, B13, B14, B15, B16, B17, B18

## NWE18DHHN-T911_REIC
designator XP?, comment NWE18DHHN-T911 REIC  (no BOM)
PCI EXPRESS, 1mm CC; PartNumber: NWE18DHHN-T911 REIC
footprint NWE18DHHN-T9_REIC (PCI Edge Connector Recep for NWE18DHHN-T921)
part A pins: A1, A2, A3, A4, A5, A6, A7, A8, A9, A10, A11, A12, A13, A14, A15, A16, A17, A18
part B pins: B1, B2, B3, B4, B5, B6, B7, B8, B9, B10, B11, B12, B13, B14, B15, B16, B17, B18